# Altium footprint library TMDX654GPEVM_BRD.PcbLib: 153 footprints (part 6 of 12)
Each footprint in its own frame and in the unit in brackets; x right, y up, seen from the top. Pads: shape width x height; smd on the part's side, far side on the other; paste and mask are expansions set on the pad; w line width, h text height; cw(c..) or ccw(c..) is an arc to the next point about the centre after c.
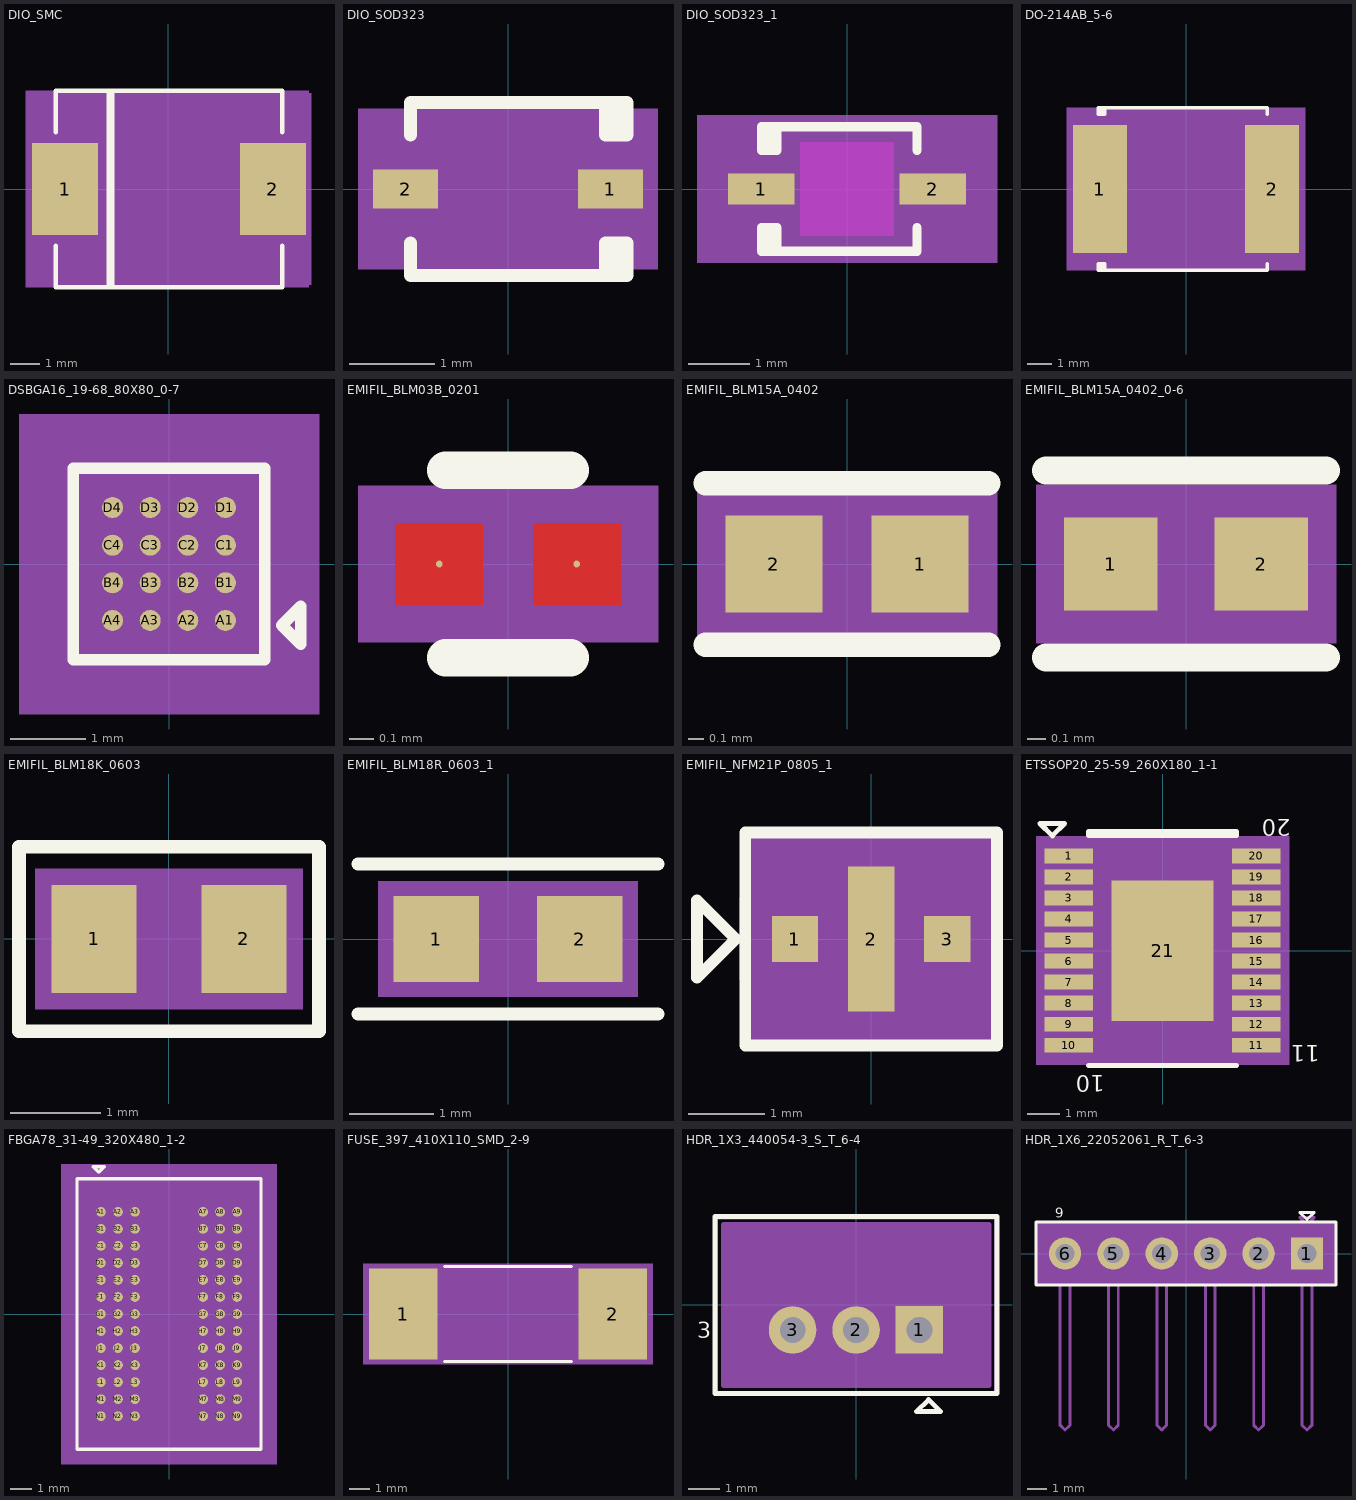
[diagram p5: the footprints below, top view; thin cyan lines are the x and y axes]

## DIO_SMC [mil] "DIO_SMC"
pads (2):
  rect 87x122 smd: 1(-136.94,0) 2(138.65,0)
Top Overlay:
  lines w6: -149.15,-75 -149.15,-130 -79.15,-130 ; -149.15,75 -149.15,130 -74.15,130 ; 150.85,-75 150.85,-130 -84.15,-130 -79.15,-130 ; 150.85,75 150.85,130 -79.15,130 ; -79.15,-130 -79.15,130 ; -79.15,-130 -79.15,130 ; -79.15,130 -74.15,130 ; -79.15,130 -74.15,130 ; -79.15,130 -74.15,130 ; -79.15,130 -84.15,130 -79.15,130 ; -74.15,130 -74.15,-130 -74.15,130
  text ".Designator" at -242,67.5 h30
Top Courtyard:
  dashed: -187.44,-127 -187.44,127 189.15,127 189.15,-127
Top 3D Body:
  region: -189.15,130 -189.15,-130 185.85,-130 185.85,130
Mechanical 10:
  lines w6: -104.15,120 140.85,120 140.85,-45 140.85,45 155.85,45 155.85,-40 140.85,-40 140.85,-120 -139.15,-120 -139.15,-40 -154.15,-40 -154.15,45 -139.15,45 -139.15,-45 -139.15,120 -104.15,120 ; -104.15,120 -94.15,120 -94.15,-120 -99.15,-120 -99.15,120 -104.15,-120 -104.15,120
  text "D2" at -21.15,-10 h30
Mechanical 11:
  lines w6: -104.15,120 140.85,120 140.85,-45 140.85,45 155.85,45 155.85,-40 140.85,-40 140.85,-120 -139.15,-120 -139.15,-40 -154.15,-40 -154.15,45 -139.15,45 -139.15,-45 -139.15,120 -104.15,120 ; -104.15,120 -94.15,120 -94.15,-120 -99.15,-120 -99.15,120 -104.15,-120 -104.15,120
  text "D2" at -21.15,-10 h30
Mechanical 12:
  lines w6: -104.15,120 140.85,120 140.85,-45 140.85,45 155.85,45 155.85,-40 140.85,-40 140.85,-120 -139.15,-120 -139.15,-40 -154.15,-40 -154.15,45 -139.15,45 -139.15,-45 -139.15,120 -104.15,120 ; -104.15,120 -94.15,120 -94.15,-120 -99.15,-120 -99.15,120 -104.15,-120 -104.15,120
  text "D2" at -21.15,-10 h30
Mechanical 13:
  lines w6: -104.15,120 140.85,120 140.85,-45 140.85,45 155.85,45 155.85,-40 140.85,-40 140.85,-120 -139.15,-120 -139.15,-40 -154.15,-40 -154.15,45 -139.15,45 -139.15,-45 -139.15,120 -104.15,120 ; -104.15,120 -94.15,120 -94.15,-120 -99.15,-120 -99.15,120 -104.15,-120 -104.15,120
  text "D2" at -21.15,-10 h30
Mechanical 14:
  lines w6: -104.15,120 140.85,120 140.85,-45 140.85,45 155.85,45 155.85,-40 140.85,-40 140.85,-120 -139.15,-120 -139.15,-40 -154.15,-40 -154.15,45 -139.15,45 -139.15,-45 -139.15,120 -104.15,120 ; -104.15,120 -94.15,120 -94.15,-120 -99.15,-120 -99.15,120 -104.15,-120 -104.15,120
  text "D2" at -21.15,-10 h30
Mechanical47:
  text "2" at 134.65,0 h10
  text "1" at -140.94,0 h10
Top Assembly:
  lines w6: -104.15,120 -94.15,120 -94.15,-120 -99.15,-120 -99.15,120 -104.15,-120 -104.15,120 ; -104.15,120 -139.15,120 -139.15,-45 -139.15,45 -154.15,45 -154.15,-40 -139.15,-40 -139.15,-120 140.85,-120 140.85,-40 155.85,-40 155.85,45 140.85,45 140.85,-45 140.85,120 -104.15,120
3D body: height 150, standoff 0, extent -189.15,-130 185.85,130

## DIO_SOD323 [mil] "DIO_SOD323"
pads (2):
  rect 30x18 smd: 1(47.24,0) 2(-47.24,0)
Top Overlay:
  lines w6: -45,-25 -45,-40 55,-40 ; -45,25 -45,40 55,40 55,25 45,25 ; 45,-25 55,-25 55,-40 ; 45,-25 50,-25 50,-40 55,-40 ; 45,-25 45,-40 55,-40 ; 45,25 45,40 ; 45,25 45,40 ; 45,25 50,25 50,40 45,40 ; 45,25 45,40
  text ".Designator" at -125,24 h30
Top Courtyard:
  dashed: 69.24,37 69.24,-37 -69.24,-37 -69.24,37
Top 3D Body:
  region: 67,31.5 67,-31.5 -67,-31.5 -67,31.5
Mechanical 15:
  lines w6: 35,30 25,30 25,-30 20,-30 20,30 35,30 ; 35,30 -35,30 -35,-30 35,-30 35,30
  text "D14" at -46,15 h30
Mechanical 16:
  lines w6: 35,30 25,30 25,-30 20,-30 20,30 35,30 ; 35,30 -35,30 -35,-30 35,-30 35,30
  text "D14" at -46,15 h30
Mechanical 17:
  lines w6: 35,30 25,30 25,-30 20,-30 20,30 35,30 ; 35,30 -35,30 -35,-30 35,-30 35,30
  text "D14" at -46,15 h30
Mechanical 18:
  lines w6: 35,30 25,30 25,-30 20,-30 20,30 35,30 ; 35,30 -35,30 -35,-30 35,-30 35,30
  text "D14" at -46,15 h30
Mechanical 19:
  lines w6: 35,30 25,30 25,-30 20,-30 20,30 35,30 ; 35,30 -35,30 -35,-30 35,-30 35,30
  text "D14" at -46,15 h30
Mechanical47:
  text "2" at -51.24,5 h10
  text "1" at 43.24,5 h10
Top Assembly:
  lines w6: 35,30 25,30 25,-30 20,-30 20,30 35,30 ; 35,30 -35,30 -35,-30 35,-30 35,30
3D body: height 150, standoff 0, extent -67,-31.5 67,31.5

## DIO_SOD323_1 [mil] "DIO_SOD323_1"
pads (2):
  rect 43x20 smd: 1(-55.12,0) 2(55.12,0)
Top Layer keep-out:
  region: -30,30 -30,-30 30,-30 30,30
Top Overlay:
  lines w6: -45,40 -45,25 ; 45,-25 45,-40 -55,-40 ; 45,25 45,40 -55,40 -55,25 -45,25 ; -55,-40 -55,-25 ; -55,-40 -50,-40 -50,-25 -45,-25 ; -55,-40 -45,-40 -45,-25 ; -55,-25 -45,-25 ; -55,-25 -45,-25 ; -50,25 -50,40 -50,25 ; -50,25 -45,25 ; -50,25 -45,25
Top Courtyard:
  dashed: -83.62,-37 -83.62,37 83.62,37 83.62,-37
Top 3D Body:
  region: -96.5,-47.5 -96.5,47.5 96.5,47.5 96.5,-47.5
Mechanical 15:
  lines w6: -35,30 -35,-30 35,-30 35,30 -35,30 ; -35,30 -25,30 -25,-30 -30,-30 -30,30 -35,30
  text "D17" at -32,-80 h30
Mechanical 16:
  lines w6: -35,30 -35,-30 35,-30 35,30 -35,30 ; -35,30 -25,30 -25,-30 -30,-30 -30,30 -35,30
  text "D17" at -32,-80 h30
Mechanical 17:
  lines w6: -35,30 -35,-30 35,-30 35,30 -35,30 ; -35,30 -25,30 -25,-30 -30,-30 -30,30 -35,30
  text "D17" at -32,-80 h30
Mechanical 18:
  lines w6: -35,30 -35,-30 35,-30 35,30 -35,30 ; -35,30 -25,30 -25,-30 -30,-30 -30,30 -35,30
  text "D17" at -32,-80 h30
Mechanical 19:
  lines w6: -35,30 -35,-30 35,-30 35,30 -35,30 ; -35,30 -25,30 -25,-30 -30,-30 -30,30 -35,30
  text "D17" at -32,-80 h30
Mechanical47:
  text "1" at -55.12,-4 h10
  text "2" at 55.12,-4 h10
Top Assembly:
  lines w6: -35,30 -35,-30 35,-30 35,30 -35,30 ; -35,30 -25,30 -25,-30 -30,-30 -30,30 -35,30
  text ".Designator" at -32,-80 h30
3D body: height 150, standoff 0, extent -96.5,-47.5 96.5,47.5

## DO-214AB_5-6 [mil] "DO-214AB_5-6"
pads (2):
  rect 87x205 smd: 1(-137.79,0) 2(137.79,0)
Top Overlay:
  lines w6: 130,-120 130,-130 -130,-130 ; 130,120 130,130 -140,130 -140,120 -130,120 ; -140,-130 -140,-120 ; -140,-130 -130,-130 ; -140,-130 -135,-130 -135,-120 -130,-120 ; -140,-130 -140,-120 ; -140,-120 -130,-120 ; -130,-130 -130,-120 ; -130,-130 -130,-120 ; -130,120 -130,130 -135,130 -135,120 -130,120
  text ".Designator" at -12,-185 h30
Top Courtyard:
  dashed: -188.29,-127 -188.29,127 188.29,127 188.29,-127
Top 3D Body:
  region: -191,-130 -191,130 191,130 191,-130
Mechanical 10:
  lines w6: -100,-120 120,-120 120,120 -120,120 -120,-120 -100,-120 ; -100,-120 -90,-120 ; -100,-120 -100,120 -95,120 -95,-120 -90,-120 ; -90,-120 -90,120 -90,-120
  text "D6" at -22,-10 h30
Mechanical 11:
  lines w6: -100,-120 120,-120 120,120 -120,120 -120,-120 -100,-120 ; -100,-120 -90,-120 ; -100,-120 -100,120 -95,120 -95,-120 -90,-120 ; -90,-120 -90,120 -90,-120
  text "D6" at -22,-10 h30
Mechanical 12:
  lines w6: -100,-120 120,-120 120,120 -120,120 -120,-120 -100,-120 ; -100,-120 -90,-120 ; -100,-120 -100,120 -95,120 -95,-120 -90,-120 ; -90,-120 -90,120 -90,-120
  text "D6" at -22,-10 h30
Mechanical 13:
  lines w6: -100,-120 120,-120 120,120 -120,120 -120,-120 -100,-120 ; -100,-120 -90,-120 ; -100,-120 -100,120 -95,120 -95,-120 -90,-120 ; -90,-120 -90,120 -90,-120
  text "D6" at -22,-10 h30
Mechanical 14:
  lines w6: -100,-120 120,-120 120,120 -120,120 -120,-120 -100,-120 ; -100,-120 -90,-120 ; -100,-120 -100,120 -95,120 -95,-120 -90,-120 ; -90,-120 -90,120 -90,-120
  text "D6" at -22,-10 h30
Mechanical47:
  text "2" at 133.79,0 h10
  text "1" at -141.79,0 h10
Top Assembly:
  lines w6: -100,-120 -100,120 -95,120 -95,-120 -90,-120 ; -100,-120 -120,-120 -120,120 120,120 120,-120 -100,-120 ; -100,-120 -90,-120 ; -90,-120 -90,120 -90,-120
3D body: height 150, standoff 0, extent -191,-130 191,130

## DSBGA16_19-68_80X80_0-7 [mil] "DSBGA16_19-68_80X80_0-7"
pads (16):
  round 11 smd: A1(29.53,-29.53) A2(9.84,-29.53) A3(-9.84,-29.53) A4(-29.53,-29.53) B1(29.53,-9.84) B2(9.84,-9.84) B3(-9.84,-9.84) B4(-29.53,-9.84) C1(29.53,9.84) C2(9.84,9.84) C3(-9.84,9.84) C4(-29.53,9.84) D1(29.53,29.53) D2(9.84,29.53) D3(-9.84,29.53) D4(-29.53,29.53)
Top Overlay:
  lines w6: -50,-50 50,-50 50,50 -50,50 -50,-50 ; 58.98,-32 68.98,-42 68.98,-22 58.98,-32
  text ".Designator" at 142.98,48 h30
Top Courtyard:
  dashed: 47,47 47,-47 -47,-47 -47,47
Top 3D Body:
  region: 78.5,78.5 78.5,-78.5 -78.5,-78.5 -78.5,78.5
Mechanical 15:
  lines w6: -40,-40 -40,40 40,40 40,-40 -40,-40 ; 40,-30 50,-40 50,-20 40,-30
  text "U59" at -37.02,83 h30
Mechanical 16:
  lines w6: -40,-40 -40,40 40,40 40,-40 -40,-40 ; 40,-30 50,-40 50,-20 40,-30
  text "U59" at -37.02,83 h30
Mechanical 17:
  lines w6: -40,-40 -40,40 40,40 40,-40 -40,-40 ; 40,-30 50,-40 50,-20 40,-30
  text "U59" at -37.02,83 h30
Mechanical 18:
  lines w6: -40,-40 -40,40 40,40 40,-40 -40,-40 ; 40,-30 50,-40 50,-20 40,-30
  text "U59" at -37.02,83 h30
Mechanical 19:
  lines w6: -40,-40 -40,40 40,40 40,-40 -40,-40 ; 40,-30 50,-40 50,-20 40,-30
  text "U59" at -37.02,83 h30
Mechanical47:
  text "D1" at 21.53,34.53 h10
  text "A4" at -37.53,-24.53 h10
  text "A1" at 21.53,-24.53 h10
  text "B4" at -37.53,-4.84 h10
  text "B3" at -17.84,-4.84 h10
  text "B2" at 1.84,-4.84 h10
  text "A3" at -17.84,-24.53 h10
  text "C2" at 1.84,14.84 h10
  text "A2" at 1.84,-24.53 h10
  text "C1" at 21.53,14.84 h10
  text "C3" at -17.84,14.84 h10
  text "D4" at -37.53,34.53 h10
  text "C4" at -37.53,14.84 h10
  text "B1" at 21.53,-4.84 h10
  text "D2" at 1.84,34.53 h10
  text "D3" at -17.84,34.53 h10
Top Assembly:
  lines w6: -40,-40 -40,40 40,40 40,-40 -40,-40 ; 40,-30 50,-40 50,-20 40,-30
3D body: height 150, standoff 0, extent -78.5,-78.5 78.5,78.5

## EMIFIL_BLM03B_0201 [mil] "EMIFIL_BLM03B_0201"
pads (2):
  oct 1x1 smd rot 135: 1(-11.02,0) 2(11.02,0)
Top Layer:
  region: -4.02,6.5 -18.02,6.5 -18.02,-6.5 -4.02,-6.5
  region: 18.02,6.5 4.02,6.5 4.02,-6.5 18.02,-6.5
Top Overlay:
  lines w6: -10,-15 10,-15 ; -10,15 10,15
Top Paste:
  region: -4.02,6.5 -18.02,6.5 -18.02,-6.5 -4.02,-6.5
  region: 18.02,6.5 4.02,6.5 4.02,-6.5 18.02,-6.5
Top Solder:
  region: -2.02,8.5 -20.02,8.5 -20.02,-8.5 -2.02,-8.5
  region: 20.02,8.5 2.02,8.5 2.02,-8.5 20.02,-8.5
Top Courtyard:
  dashed: -24.02,-12.5 -24.02,12.5 24.02,12.5 24.02,-12.5
Top 3D Body:
  region: -22,-10.5 -22,10.5 22,10.5 22,-10.5
Mechanical 15:
  lines w6: -10,-5 -10,5 10,5 10,-5 -10,-5
  text "FL13" at -518.46,-1715.15 h30
Mechanical 16:
  lines w6: -10,-5 -10,5 10,5 10,-5 -10,-5
  text "FL13" at -518.46,-1715.15 h30
Mechanical 17:
  lines w6: -10,-5 -10,5 10,5 10,-5 -10,-5
  text "FL13" at -518.46,-1715.15 h30
Mechanical 18:
  lines w6: -10,-5 -10,5 10,5 10,-5 -10,-5
  text "FL13" at -518.46,-1715.15 h30
Mechanical 19:
  lines w6: -10,-5 -10,5 10,5 10,-5 -10,-5
  text "FL13" at -518.46,-1715.15 h30
Mechanical47:
  text "1" at -8.2,-2.83 h10
  text "2" at 13.85,-2.83 h10
Top Assembly:
  lines w6: -10,-5 -10,5 10,5 10,-5 -10,-5
  text ".Designator" at -518.46,-1715.15 h30
3D body: height 150, standoff 0, extent -22,-10.5 22,10.5

## EMIFIL_BLM15A_0402 [mil] "EMIFIL_BLM15A_0402"
pads (2):
  rect 24x24 smd: 1(18.11,0) 2(-18.11,0)
Top Overlay:
  lines w6: -35,-20 35,-20 ; -35,20 35,20
  text ".Designator" at -41,-26 h30
Top Courtyard:
  dashed: 37.11,19 37.11,-19 -37.11,-19 -37.11,19
Top 3D Body:
  region: 35,20 35,-20 -35,-20 -35,20
Mechanical 15:
  lines w6: -20,-10 20,-10 20,10 -20,10 -20,-10
  text "FL9" at -36,15 h30
Mechanical 16:
  lines w6: -20,-10 20,-10 20,10 -20,10 -20,-10
  text "FL9" at -36,15 h30
Mechanical 17:
  lines w6: -20,-10 20,-10 20,10 -20,10 -20,-10
  text "FL9" at -36,15 h30
Mechanical 18:
  lines w6: -20,-10 20,-10 20,10 -20,10 -20,-10
  text "FL9" at -36,15 h30
Mechanical 19:
  lines w6: -20,-10 20,-10 20,10 -20,10 -20,-10
  text "FL9" at -36,15 h30
Mechanical47:
  text "1" at 14.11,0 h10
  text "2" at -22.11,0 h10
Top Assembly:
  lines w6: -20,-10 20,-10 20,10 -20,10 -20,-10
3D body: height 150, standoff 0, extent -35,-20 35,20

## EMIFIL_BLM15A_0402_0-6 [mil] "EMIFIL_BLM15A_0402_0-6"
pads (2):
  rect 20x20 smd: 1(-16.14,0) 2(16.14,0)
Top Overlay:
  lines w6: -30,-20 30,-20 ; -30,20 30,20
  text ".Designator" at 59,-32.5 h30
Top Courtyard:
  dashed: -32.14,-17 -32.14,17 32.14,17 32.14,-17
Top 3D Body:
  region: -30,-15 -30,15 30,15 30,-15
Mechanical 10:
  lines w6: -20,-10 -20,10 20,10 20,-10 -20,-10
  text "FL1" at -31,22.5 h30
Mechanical 11:
  lines w6: -20,-10 -20,10 20,10 20,-10 -20,-10
  text "FL1" at -31,22.5 h30
Mechanical 12:
  lines w6: -20,-10 -20,10 20,10 20,-10 -20,-10
  text "FL1" at -31,22.5 h30
Mechanical 13:
  lines w6: -20,-10 -20,10 20,10 20,-10 -20,-10
  text "FL1" at -31,22.5 h30
Mechanical 14:
  lines w6: -20,-10 -20,10 20,10 20,-10 -20,-10
  text "FL1" at -31,22.5 h30
Mechanical47:
  text "2" at 20.14,0 h10
  text "1" at -12.14,0 h10
Top Assembly:
  lines w6: -20,-10 -20,10 20,10 20,-10 -20,-10
3D body: height 150, standoff 0, extent -30,-15 30,15

## EMIFIL_BLM18K_0603 [mil] "EMIFIL_BLM18K_0603"
pads (2):
  rect 37x47 smd: 1(-32.48,0) 2(32.48,0)
Top Overlay:
  lines w6: -65,-40 -65,40 65,40 65,-40 -65,-40
  text ".Designator" at 66.9,77 h30
Top Courtyard:
  dashed: -57.98,-30.5 -57.98,30.5 57.98,30.5 57.98,-30.5
Top 3D Body:
  region: -35,-20 35,-20 35,20 -35,20
Mechanical 15:
  lines w6: -35,-20 -35,20 35,20 35,-20 -35,-20
  text "FL17" at -48.1,16.5 h30
Mechanical 16:
  lines w6: -35,-20 -35,20 35,20 35,-20 -35,-20
  text "FL17" at -48.1,16.5 h30
Mechanical 17:
  lines w6: -35,-20 -35,20 35,20 35,-20 -35,-20
  text "FL17" at -48.1,16.5 h30
Mechanical 18:
  lines w6: -35,-20 -35,20 35,20 35,-20 -35,-20
  text "FL17" at -48.1,16.5 h30
Mechanical 19:
  lines w6: -35,-20 -35,20 35,20 35,-20 -35,-20
  text "FL17" at -48.1,16.5 h30
Mechanical47:
  text "1" at -32.48,4 h10
  text "2" at 32.48,4 h10
Top Assembly:
  lines w6: -35,-20 -35,20 35,20 35,-20 -35,-20
3D body: height 150, standoff 0, extent -35,-20 35,20

## EMIFIL_BLM18R_0603_1 [mil] "EMIFIL_BLM18R_0603_1"
pads (2):
  rect 40x40 smd: 1(-33.46,0) 2(33.46,0)
Top Overlay:
  lines w6: -70,-35 70,-35 ; -70,35 70,35
  text ".Designator" at 12.5,-878.5 h30
Top Courtyard:
  dashed: -60.46,-27 -60.46,27 60.46,27 60.46,-27
Top 3D Body:
  region: -35,-20 35,-20 35,20 -35,20
Mechanical 15:
  lines w6: -35,-20 -35,20 35,20 35,-20 -35,-20
  text "FL16" at -43.5,23 h30
Mechanical 16:
  lines w6: -35,-20 -35,20 35,20 35,-20 -35,-20
  text "FL16" at -43.5,23 h30
Mechanical 17:
  lines w6: -35,-20 -35,20 35,20 35,-20 -35,-20
  text "FL16" at -43.5,23 h30
Mechanical 18:
  lines w6: -35,-20 -35,20 35,20 35,-20 -35,-20
  text "FL16" at -43.5,23 h30
Mechanical 19:
  lines w6: -35,-20 -35,20 35,20 35,-20 -35,-20
  text "FL16" at -43.5,23 h30
Mechanical47:
  text "1" at -37.46,0 h10
  text "2" at 29.46,0 h10
Top Assembly:
  lines w6: -35,-20 -35,20 35,20 35,-20 -35,-20
3D body: height 150, standoff 0, extent -35,-20 35,20

## EMIFIL_NFM21P_0805_1 [mil] "EMIFIL_NFM21P_0805_1"
pads (3):
  rect 24x24 smd: 1(-39.37,0) 3(39.37,0)
  rect 24x75 smd: 2(0,0)
Top Overlay:
  lines w6: -90,-20 -70,0 -90,20 -90,-20 ; -65,-55 65,-55 65,55 -65,55 -65,-55
  text ".Designator" at -29.63,-107.5 h30
Top Courtyard:
  dashed: -58.37,-44.5 -58.37,44.5 58.37,44.5 58.37,-44.5
Top 3D Body:
  region: -65,-55 65,-55 65,55 -65,55
Mechanical 10:
  lines w6: -65,-20 -45,0 -65,20 -65,-20 ; -45,-30 -45,30 45,30 45,-30 -45,-30
  text "FL2" at -25.63,-48.5 h30
Mechanical 11:
  lines w6: -65,-20 -45,0 -65,20 -65,-20 ; -45,-30 -45,30 45,30 45,-30 -45,-30
  text "FL2" at -25.63,-48.5 h30
Mechanical 12:
  lines w6: -65,-20 -45,0 -65,20 -65,-20 ; -45,-30 -45,30 45,30 45,-30 -45,-30
  text "FL2" at -25.63,-48.5 h30
Mechanical 13:
  lines w6: -65,-20 -45,0 -65,20 -65,-20 ; -45,-30 -45,30 45,30 45,-30 -45,-30
  text "FL2" at -25.63,-48.5 h30
Mechanical 14:
  lines w6: -65,-20 -45,0 -65,20 -65,-20 ; -45,-30 -45,30 45,30 45,-30 -45,-30
  text "FL2" at -25.63,-48.5 h30
Mechanical47:
  text "2" at 0,4 h10
  text "1" at -39.37,4 h10
  text "3" at 39.37,4 h10
Top Assembly:
  lines w6: -65,-20 -45,0 -65,20 -65,-20 ; -45,-30 -45,30 45,30 45,-30 -45,-30
3D body: height 150, standoff 0, extent -65,-55 65,55

## ETSSOP20_25-59_260X180_1-1 [mil] "ETSSOP20_25-59_260X180_1-1"
pads (21):
  rect 59x18 smd: 1(-114.17,115.16) 2(-114.17,89.57) 3(-114.17,63.98) 4(-114.17,38.39) 5(-114.17,12.8) 6(-114.17,-12.8) 7(-114.17,-38.39) 8(-114.17,-63.98) 9(-114.17,-89.57) 10(-114.17,-115.16) 11(114.17,-115.16) 12(114.17,-89.57) 13(114.17,-63.98) 14(114.17,-38.39) 15(114.17,-12.8) 16(114.17,12.8) 17(114.17,38.39) 18(114.17,63.98) 19(114.17,89.57) 20(114.17,115.16)
  rect 124x171 smd: 21(0,0)
Top Overlay:
  lines w6: -90,-140 90,-140 ; -149.06,154.58 -134.06,139.58 -119.06,154.58 -149.06,154.58 ; -90,140 -90,145 90,145 90,140 -90,140
  text ".Designator" at 39,-160 h30
  text "10" at -70.6,-151.92 h20
  text "11" at 191,-115 h20
  text "20" at 156,160 h20
Top Courtyard:
  dashed: -149.67,-137 -149.67,137 149.67,137 149.67,-137
Top 3D Body:
  region: -154,-139 -154,139 154,139 154,-139
Mechanical 10:
  lines w6: -90,120 -90,-130 90,-130 90,130 -90,130 -90,120 ; -90,120 90,120 -90,120 ; -107.5,100 -92.5,115 -107.5,130 -107.5,100
  text "U14" at 44,10 h30
Mechanical 11:
  lines w6: -90,120 -90,-130 90,-130 90,130 -90,130 -90,120 ; -90,120 90,120 -90,120 ; -107.5,100 -92.5,115 -107.5,130 -107.5,100
  text "U14" at 44,10 h30
Mechanical 12:
  lines w6: -90,120 -90,-130 90,-130 90,130 -90,130 -90,120 ; -90,120 90,120 -90,120 ; -107.5,100 -92.5,115 -107.5,130 -107.5,100
  text "U14" at 44,10 h30
Mechanical 13:
  lines w6: -90,120 -90,-130 90,-130 90,130 -90,130 -90,120 ; -90,120 90,120 -90,120 ; -107.5,100 -92.5,115 -107.5,130 -107.5,100
  text "U14" at 44,10 h30
Mechanical 14:
  lines w6: -90,120 -90,-130 90,-130 90,130 -90,130 -90,120 ; -90,120 90,120 -90,120 ; -107.5,100 -92.5,115 -107.5,130 -107.5,100
  text "U14" at 44,10 h30
Mechanical47:
  text "11" at 122.17,-120.16 h10
  text "4" at -110.17,33.39 h10
  text "1" at -110.17,110.16 h10
  text "21" at 8,0 h10
  text "14" at 122.17,-43.39 h10
  text "13" at 122.17,-68.98 h10
  text "6" at -110.17,-17.8 h10
  text "2" at -110.17,84.57 h10
  text "12" at 122.17,-94.57 h10
  text "19" at 122.17,84.57 h10
  text "5" at -110.17,7.8 h10
  text "9" at -110.17,-94.57 h10
  text "15" at 122.17,-17.8 h10
  text "20" at 122.17,110.16 h10
  text "3" at -110.17,58.98 h10
  text "16" at 122.17,7.8 h10
  text "8" at -110.17,-68.98 h10
  text "18" at 122.17,58.98 h10
  text "7" at -110.17,-43.39 h10
  text "10" at -106.17,-120.16 h10
  text "17" at 122.17,33.39 h10
Top Assembly:
  lines w6: -90,120 90,120 -90,120 ; -90,120 -90,130 90,130 90,-130 -90,-130 -90,120 ; -107.5,100 -92.5,115 -107.5,130 -107.5,100
3D body: height 150, standoff 0, extent -154,-139 154,139

## FBGA78_31-49_320X480_1-2 [mil] "FBGA78_31-49_320X480_1-2"
pads (78):
  round 18 smd: A1(-125.98,188.98) A2(-94.49,188.98) A3(-62.99,188.98) A7(62.99,188.98) A8(94.49,188.98) A9(125.98,188.98) B1(-125.98,157.48) B2(-94.49,157.48) B3(-62.99,157.48) B7(62.99,157.48) B8(94.49,157.48) B9(125.98,157.48) C1(-125.98,125.98) C2(-94.49,125.98) C3(-62.99,125.98) C7(62.99,125.98) C8(94.49,125.98) C9(125.98,125.98) D1(-125.98,94.49) D2(-94.49,94.49) D3(-62.99,94.49) D7(62.99,94.49) D8(94.49,94.49) D9(125.98,94.49) E1(-125.98,62.99) E2(-94.49,62.99) E3(-62.99,62.99) E7(62.99,62.99) E8(94.49,62.99) E9(125.98,62.99) F1(-125.98,31.5) F2(-94.49,31.5) F3(-62.99,31.5) F7(62.99,31.5) F8(94.49,31.5) F9(125.98,31.5) G1(-125.98,0) G2(-94.49,0) G3(-62.99,0) G7(62.99,0) G8(94.49,0) G9(125.98,0) H1(-125.98,-31.5) H2(-94.49,-31.5) H3(-62.99,-31.5) H7(62.99,-31.5) H8(94.49,-31.5) H9(125.98,-31.5) J1(-125.98,-62.99) J2(-94.49,-62.99) J3(-62.99,-62.99) J7(62.99,-62.99) J8(94.49,-62.99) J9(125.98,-62.99) K1(-125.98,-94.49) K2(-94.49,-94.49) K3(-62.99,-94.49) K7(62.99,-94.49) K8(94.49,-94.49) K9(125.98,-94.49) L1(-125.98,-125.98) L2(-94.49,-125.98) L3(-62.99,-125.98) L7(62.99,-125.98) L8(94.49,-125.98) L9(125.98,-125.98) M1(-125.98,-157.48) M2(-94.49,-157.48) M3(-62.99,-157.48) M7(62.99,-157.48) M8(94.49,-157.48) M9(125.98,-157.48) N1(-125.98,-188.98) N2(-94.49,-188.98) N3(-62.99,-188.98) N7(62.99,-188.98) N8(94.49,-188.98) N9(125.98,-188.98)
Top Overlay:
  lines w6: -170,-250 170,-250 170,250 -170,250 -170,-250 ; -140,272.52 -130,262.52 -120,272.52 -140,272.52
  text ".Designator" at -34,-297.48 h30
Top Courtyard:
  dashed: -167,-247 167,-247 167,247 -167,247
Top 3D Body:
  region: -199,-277.5 -199,277.5 199,277.5 199,-277.5
Mechanical 10:
  lines w6: -170,180 -160,190 -170,200 -170,180 ; -160,-240 -160,240 160,240 160,-240 -160,-240
  text "U25" at -30,33.52 h30
Mechanical 11:
  lines w6: -170,180 -160,190 -170,200 -170,180 ; -160,-240 -160,240 160,240 160,-240 -160,-240
  text "U25" at -30,33.52 h30
Mechanical 12:
  lines w6: -170,180 -160,190 -170,200 -170,180 ; -160,-240 -160,240 160,240 160,-240 -160,-240
  text "U25" at -30,33.52 h30
Mechanical 13:
  lines w6: -170,180 -160,190 -170,200 -170,180 ; -160,-240 -160,240 160,240 160,-240 -160,-240
  text "U25" at -30,33.52 h30
Mechanical 14:
  lines w6: -170,180 -160,190 -170,200 -170,180 ; -160,-240 -160,240 160,240 160,-240 -160,-240
  text "U25" at -30,33.52 h30
Mechanical47:
  text "L7" at 62.99,-122.98 h10
  text "A7" at 62.99,191.98 h10
  text "N7" at 62.99,-185.98 h10
  text "M8" at 94.49,-154.48 h10
  text "G7" at 62.99,3 h10
  text "L1" at -125.98,-122.98 h10
  text "L8" at 94.49,-122.98 h10
  text "G3" at -62.99,3 h10
  text "M3" at -62.99,-154.48 h10
  text "H3" at -62.99,-28.5 h10
  text "K7" at 62.99,-91.49 h10
  text "D7" at 62.99,97.49 h10
  text "K8" at 94.49,-91.49 h10
  text "B7" at 62.99,160.48 h10
  text "J3" at -62.99,-59.99 h10
  text "G2" at -94.49,3 h10
  text "F3" at -62.99,34.5 h10
  text "N3" at -62.99,-185.98 h10
  text "E3" at -62.99,65.99 h10
  text "C3" at -62.99,128.98 h10
  text "J1" at -125.98,-59.99 h10
  text "M2" at -94.49,-154.48 h10
  text "H7" at 62.99,-28.5 h10
  text "B1" at -125.98,160.48 h10
  text "M9" at 125.98,-154.48 h10
  text "B3" at -62.99,160.48 h10
  text "G8" at 94.49,3 h10
  text "L9" at 125.98,-122.98 h10
  text "N2" at -94.49,-185.98 h10
  text "J8" at 94.49,-59.99 h10
  text "C2" at -94.49,128.98 h10
  text "F8" at 94.49,34.5 h10
  text "F7" at 62.99,34.5 h10
  text "G9" at 125.98,3 h10
  text "J2" at -94.49,-59.99 h10
  text "N8" at 94.49,-185.98 h10
  text "H2" at -94.49,-28.5 h10
  text "K2" at -94.49,-91.49 h10
  text "E7" at 62.99,65.99 h10
  text "D2" at -94.49,97.49 h10
  text "L3" at -62.99,-122.98 h10
  text "H9" at 125.98,-28.5 h10
  text "K9" at 125.98,-91.49 h10
  text "E9" at 125.98,65.99 h10
  text "D9" at 125.98,97.49 h10
  text "A9" at 125.98,191.98 h10
  text "C8" at 94.49,128.98 h10
  text "A8" at 94.49,191.98 h10
  text "N1" at -125.98,-185.98 h10
  text "E1" at -125.98,65.99 h10
  text "G1" at -125.98,3 h10
  text "D1" at -125.98,97.49 h10
  text "A2" at -94.49,191.98 h10
  text "K1" at -125.98,-91.49 h10
  text "L2" at -94.49,-122.98 h10
  text "D3" at -62.99,97.49 h10
  text "M7" at 62.99,-154.48 h10
  text "D8" at 94.49,97.49 h10
  text "K3" at -62.99,-91.49 h10
  text "J7" at 62.99,-59.99 h10
  text "F2" at -94.49,34.5 h10
  text "H8" at 94.49,-28.5 h10
  text "A3" at -62.99,191.98 h10
  text "B9" at 125.98,160.48 h10
  text "N9" at 125.98,-185.98 h10
  text "J9" at 125.98,-59.99 h10
  text "F9" at 125.98,34.5 h10
  text "M1" at -125.98,-154.48 h10
  text "F1" at -125.98,34.5 h10
  text "H1" at -125.98,-28.5 h10
  text "A1" at -125.98,191.98 h10
  text "C7" at 62.99,128.98 h10
  text "B8" at 94.49,160.48 h10
  text "C9" at 125.98,128.98 h10
  text "E8" at 94.49,65.99 h10
  text "B2" at -94.49,160.48 h10
  text "C1" at -125.98,128.98 h10
  text "E2" at -94.49,65.99 h10
Top Assembly:
  lines w6: -170,180 -160,190 -170,200 -170,180 ; -160,-240 -160,240 160,240 160,-240 -160,-240
Bottom Component Outline:
  text "9" at 137.5,258.33 h20
  text "8" at 97.5,258.33 h20
  text "7" at 62.5,258.33 h20
  text "3" at -57.5,258.33 h20
  text "2" at -92.5,258.33 h20
  text "1" at -127.5,258.33 h20
  text "N" at -182.5,-196.67 h20
  text "M" at -197.5,-166.67 h20
  text "L" at -182.5,-136.67 h20
  text "K" at -197.5,-106.67 h20
  text "J" at -177.5,-71.67 h20
  text "H" at -197.5,-41.67 h20
  text "G" at -177.5,-11.67 h20
  text "F" at -197.5,18.33 h20
  text "E" at -177.5,48.33 h20
  text "D" at -197.5,83.33 h20
  text "C" at -177.5,118.33 h20
  text "B" at -197.5,148.33 h20
  text "A" at -177.5,178.33 h20
3D body: height 150, standoff 0, extent -199,-277.5 199,277.5

## FUSE_397_410X110_SMD_2-9 [mil] "FUSE_397_410X110_SMD_2-9"
pads (2):
  rect 130x172 smd: 1(-198.62,0) 2(198.62,0)
Top Overlay:
  lines w6: -120,-90 120,-90 ; -120,90 120,90
  text ".Designator" at -2,-150 h30
Top Courtyard:
  dashed: -270.62,-93 -270.62,93 270.62,93 270.62,-93
Top 3D Body:
  region: -275,95 -275,-95 275,-95 275,95
Mechanical 10:
  lines w6: -205,-55 -205,55 205,55 205,-55 -205,-55
  text "F1" at -22,-10 h30
Mechanical 11:
  lines w6: -205,-55 -205,55 205,55 205,-55 -205,-55
  text "F1" at -22,-10 h30
Mechanical 12:
  lines w6: -205,-55 -205,55 205,55 205,-55 -205,-55
  text "F1" at -22,-10 h30
Mechanical 13:
  lines w6: -205,-55 -205,55 205,55 205,-55 -205,-55
  text "F1" at -22,-10 h30
Mechanical 14:
  lines w6: -205,-55 -205,55 205,55 205,-55 -205,-55
  text "F1" at -22,-10 h30
Mechanical47:
  text "2" at 194.62,0 h10
  text "1" at -202.62,0 h10
Top Assembly:
  lines w6: -205,-55 -205,55 205,55 205,-55 -205,-55
3D body: height 150, standoff 0, extent -275,-95 275,95

## HDR_1X3_440054-3_S_T_6-4 [mil] "HDR_1X3_440054-3_S_T_6-4"
pads (3):
  rect 59x59 / inner round 59 / far side rect 59x59 hole 32: 1(78.74,-31.1)
  round 59 hole 32: 2(0,-31.1) 3(-78.74,-31.1)
Top Overlay:
  lines w6: -175,-110 175,-110 175,110 -175,110 -175,-110 ; 75,-132.5 90,-117.5 105,-132.5 75,-132.5
  text "3" at -197.5,-41.67 h20
  text ".Designator" at -22,125 h30
Top Courtyard:
  lines w1: -172,-107 -172,107 172,107 172,-107 -172,-107
Top 3D Body:
  region: -165,-100 165,-100 165,100 -165,100
Mechanical 10:
  lines w6: 35,-100 165,-100 165,100 50,100 ; 35,-100 35,-75 -35,-75 -35,-100 35,-100 ; 35,-100 -165,-100 -165,100 50,100 ; 50,100 -50,100 -50,85 -30,85 -30,100 30,100 30,85 50,85 50,100 ; 125,-30 140,-45 140,-15 125,-30
  text "J9" at -20,8 h30
Mechanical 11:
  lines w6: 35,-100 165,-100 165,100 50,100 ; 35,-100 35,-75 -35,-75 -35,-100 35,-100 ; 35,-100 -165,-100 -165,100 50,100 ; 50,100 -50,100 -50,85 -30,85 -30,100 30,100 30,85 50,85 50,100 ; 125,-30 140,-45 140,-15 125,-30
  text "J9" at -20,8 h30
Mechanical 12:
  lines w6: 35,-100 165,-100 165,100 50,100 ; 35,-100 35,-75 -35,-75 -35,-100 35,-100 ; 35,-100 -165,-100 -165,100 50,100 ; 50,100 -50,100 -50,85 -30,85 -30,100 30,100 30,85 50,85 50,100 ; 125,-30 140,-45 140,-15 125,-30
  text "J9" at -20,8 h30
Mechanical 13:
  lines w6: 35,-100 165,-100 165,100 50,100 ; 35,-100 35,-75 -35,-75 -35,-100 35,-100 ; 35,-100 -165,-100 -165,100 50,100 ; 50,100 -50,100 -50,85 -30,85 -30,100 30,100 30,85 50,85 50,100 ; 125,-30 140,-45 140,-15 125,-30
  text "J9" at -20,8 h30
Mechanical 14:
  lines w6: 35,-100 165,-100 165,100 50,100 ; 35,-100 35,-75 -35,-75 -35,-100 35,-100 ; 35,-100 -165,-100 -165,100 50,100 ; 50,100 -50,100 -50,85 -30,85 -30,100 30,100 30,85 50,85 50,100 ; 125,-30 140,-45 140,-15 125,-30
  text "J9" at -20,8 h30
Mechanical47:
  text "1" at 74.74,-31.1 h10
  text "3" at -82.74,-31.1 h10
  text "2" at -4,-31.1 h10
Top Assembly:
  lines w6: 35,-100 -165,-100 -165,100 50,100 ; 35,-100 165,-100 165,100 50,100 ; 35,-100 35,-75 -35,-75 -35,-100 35,-100 ; 50,100 -50,100 -50,85 -30,85 -30,100 30,100 30,85 50,85 50,100 ; 125,-30 140,-45 140,-15 125,-30
3D body: height 150, standoff 0, extent -165,-100 165,100

## HDR_1X6_22052061_R_T_6-3 [mil] "HDR_1X6_22052061_R_T_6-3"
pads (6):
  rect 67x67 / inner round 67 / far side rect 67x67 hole 40: 1(250,0)
  round 67 hole 40: 2(150,0) 3(50,0) 4(-50,0) 5(-150,0) 6(-250,0)
Top Overlay:
  lines w6: -310,-65 -310,65 310,65 310,-65 -310,-65 ; 235,85 265,85 250,70 235,85
  text "6" at -252.5,95 h20
  text ".Designator" at 39,-85 h30
Top Courtyard:
  dashed: -307,-62 307,-62 307,62 -307,62
Top 3D Body:
  region: -310,-65 310,-65 310,65 -310,65
Mechanical 10:
  lines w6: 260,-55 300,-55 300,55 -300,55 -300,-55 260,-55 ; 260,-55 260,-355 250,-365 240,-355 240,-55 160,-55 160,-355 150,-365 140,-355 140,-55 60,-55 60,-355 50,-365 40,-355 40,-55 -40,-55 -40,-355 -50,-365 -60,-355 -60,-55 -140,-55 -140,-355 -150,-365 -160,-355 -160,-55 -240,-55 -240,-355 -250,-365 -260,-355 -260,-55 260,-55 ; 235,75 250,60 265,75 235,75
  text "J30" at 40,12 h30
Mechanical 11:
  lines w6: 260,-55 300,-55 300,55 -300,55 -300,-55 260,-55 ; 260,-55 260,-355 250,-365 240,-355 240,-55 160,-55 160,-355 150,-365 140,-355 140,-55 60,-55 60,-355 50,-365 40,-355 40,-55 -40,-55 -40,-355 -50,-365 -60,-355 -60,-55 -140,-55 -140,-355 -150,-365 -160,-355 -160,-55 -240,-55 -240,-355 -250,-365 -260,-355 -260,-55 260,-55 ; 235,75 250,60 265,75 235,75
  text "J30" at 40,12 h30
Mechanical 12:
  lines w6: 260,-55 300,-55 300,55 -300,55 -300,-55 260,-55 ; 260,-55 260,-355 250,-365 240,-355 240,-55 160,-55 160,-355 150,-365 140,-355 140,-55 60,-55 60,-355 50,-365 40,-355 40,-55 -40,-55 -40,-355 -50,-365 -60,-355 -60,-55 -140,-55 -140,-355 -150,-365 -160,-355 -160,-55 -240,-55 -240,-355 -250,-365 -260,-355 -260,-55 260,-55 ; 235,75 250,60 265,75 235,75
  text "J30" at 40,12 h30
Mechanical 13:
  lines w6: 260,-55 300,-55 300,55 -300,55 -300,-55 260,-55 ; 260,-55 260,-355 250,-365 240,-355 240,-55 160,-55 160,-355 150,-365 140,-355 140,-55 60,-55 60,-355 50,-365 40,-355 40,-55 -40,-55 -40,-355 -50,-365 -60,-355 -60,-55 -140,-55 -140,-355 -150,-365 -160,-355 -160,-55 -240,-55 -240,-355 -250,-365 -260,-355 -260,-55 260,-55 ; 235,75 250,60 265,75 235,75
  text "J30" at 40,12 h30
Mechanical 14:
  lines w6: 260,-55 300,-55 300,55 -300,55 -300,-55 260,-55 ; 260,-55 260,-355 250,-365 240,-355 240,-55 160,-55 160,-355 150,-365 140,-355 140,-55 60,-55 60,-355 50,-365 40,-355 40,-55 -40,-55 -40,-355 -50,-365 -60,-355 -60,-55 -140,-55 -140,-355 -150,-365 -160,-355 -160,-55 -240,-55 -240,-355 -250,-365 -260,-355 -260,-55 260,-55 ; 235,75 250,60 265,75 235,75
  text "J30" at 40,12 h30
Mechanical47:
  text "5" at -146,0 h10
  text "4" at -46,0 h10
  text "6" at -246,0 h10
  text "2" at 154,0 h10
  text "1" at 254,0 h10
  text "3" at 54,0 h10
Top Assembly:
  lines w6: 260,-55 -300,-55 -300,55 300,55 300,-55 260,-55 ; 260,-55 260,-355 250,-365 240,-355 240,-55 160,-55 160,-355 150,-365 140,-355 140,-55 60,-55 60,-355 50,-365 40,-355 40,-55 -40,-55 -40,-355 -50,-365 -60,-355 -60,-55 -140,-55 -140,-355 -150,-365 -160,-355 -160,-55 -240,-55 -240,-355 -250,-365 -260,-355 -260,-55 260,-55 ; 235,75 250,60 265,75 235,75
3D body: height 150, standoff 0, extent -310,-65 310,65